# Altium footprint library 7-seg_led.PcbLib: 1 footprints
Each footprint in its own frame and in the unit in brackets; x right, y up, seen from the top. Pads: shape width x height; smd on the part's side, far side on the other; paste and mask are expansions set on the pad; w line width, h text height; cw(c..) or ccw(c..) is an arc to the next point about the centre after c.
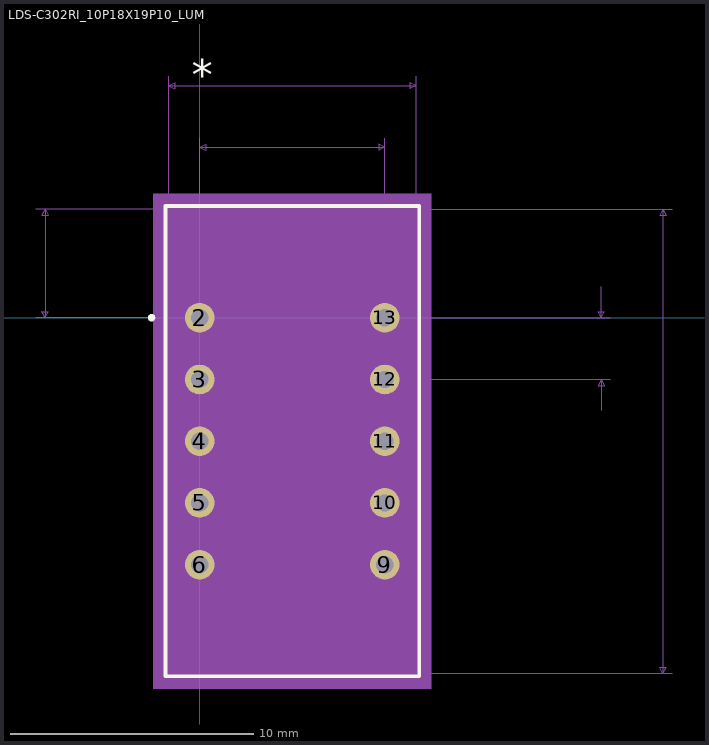
[diagram p0: the footprint, top view; thin cyan lines are the x and y axes]

## LDS-C302RI_10P18X19P10_LUM [mil]
pads (10):
  round 48 hole 28 mask+0: 2(0,0) 3(0,-100) 4(0,-200) 5(0,-300) 6(0,-400) 9(300,-400) 10(300,-300) 11(300,-200) 12(300,-100) 13(300,0)
Top Overlay:
  circle w6: c-78,0 r3
  lines w6: -55.5,-581 355.5,-581 355.5,181 -55.5,181 -55.5,-581
  text "*" at -12.5,368.67 h50
Mechanical 5:
  region: 375.5,-601 -75.5,-601 -75.5,201 375.5,201
Mechanical 7:
  lines w1: -265.5,0 350.5,0 ; -265.5,176 150,176 765.5,176 ; -50.5,-200 -50.5,391 ; 0,-200 0,291 ; 150,0 665.5,0 ; 300,-200 300,291 ; 350.5,-576 765.5,-576 ; 350.5,-200 350.5,391 ; 350.5,-100 665.5,-100 ; 650.5,-150 650.5,-100 ; 650.5,50 650.5,0 ; -250.5,0 -250.5,176 ; -250.5,0 -255.5,10 -245.5,10 -250.5,0 ; -250.5,176 -255.5,166 -245.5,166 -250.5,176 ; -50.5,376 350.5,376 ; -50.5,376 -40.5,381 -40.5,371 -50.5,376 ; 0,276 300,276 ; 0,276 10,281 10,271 0,276 ; 300,276 290,281 290,271 300,276 ; 350.5,376 340.5,381 340.5,371 350.5,376 ; 650.5,-100 645.5,-110 655.5,-110 650.5,-100 ; 650.5,0 645.5,10 655.5,10 650.5,0 ; 750.5,-576 750.5,176 ; 750.5,-576 745.5,-566 755.5,-566 750.5,-576 ; 750.5,176 745.5,166 755.5,166 750.5,176
  text "Default Padstyle: c122h71" at -162.5,-776 h50
  text "Alt 1 Padstyle: b152_229h76" at -187.5,-836 h50
  text "Alt 2 Padstyle: b229_152h76" at -187.5,-896 h50
  text "0.401in/10.185mm" at 50,396 h25
  text "0.3in/7.62mm" at 75,296 h25
  text "0.176in/4.47mm" at -445.5,75.5 h25
  text "0.1in/2.54mm" at 670.5,-62.5 h25
  text "0.752in/19.101mm" at 770.5,-212.5 h25
Mechanical 13:
  circle w0: c24,0 r3
  lines w0: 138,176 ccw(c150,176) 162,176
  lines w1: -50.5,-576 350.5,-576 350.5,176 -50.5,176 -50.5,-576
  text "*" at -12.5,16.67 h50
Mechanical 15:
  region: 360.5,-586 -60.5,-586 -60.5,186 360.5,186
  region: 350.5,-576 -50.5,-576 -50.5,176 350.5,176
  lines w6: -60.5,-586 -60.5,186 360.5,186 360.5,-586 -60.5,-586
3D body: height 10, standoff 0, extent 0,0 10,10